# EAGLE library part EFR32MG21A0*IM32 (library EFM32)
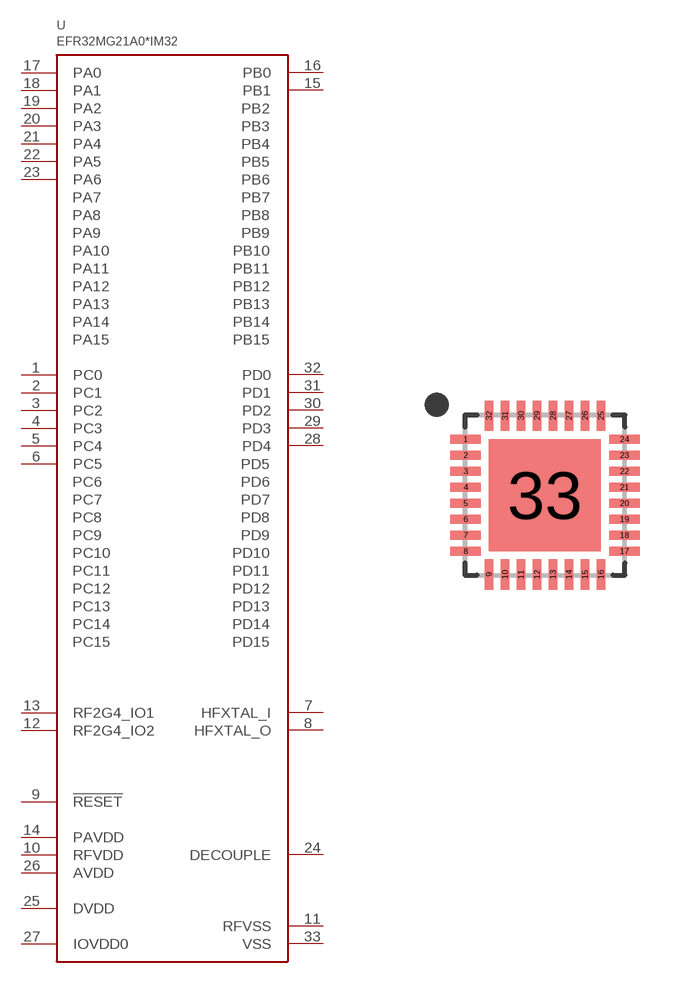
[diagram p12: symbol with the pads of QFN32_0.4P; footprint QFN32_0.4P]

Designator prefix U

## EFR32MG21A010F1024IM32, EFR32MG21A010F512IM32, EFR32MG21A010F768IM32, EFR32MG21A020F1024IM32, EFR32MG21A020F512IM32, EFR32MG21A020F768IM32  [QFN32_0.4P]
1  PC0
2  PC1
3  PC2
4  PC3
5  PC4
6  PC5
7  HFXTAL_I
8  HFXTAL_O
9  !RESET
10  RFVDD
11  RFVSS
12  RF2G4_IO2
13  RF2G4_IO1
14  PAVDD
15  PB1
16  PB0
17  PA0
18  PA1
19  PA2
20  PA3
21  PA4
22  PA5
23  PA6
24  DECOUPLE
25  DVDD
26  AVDD
27  IOVDD0
28  PD4
29  PD3
30  PD2
31  PD1
32  PD0
33  VSS

## Footprint QFN32_0.4P (pad centres in mm)
smd 0.76 x 0.22: 1 -1.985,1.4; 2 -1.985,1; 3 -1.985,0.6; 4 -1.985,0.2; 5 -1.985,-0.2; 6 -1.985,-0.6; 7 -1.985,-1; 8 -1.985,-1.4; 17 1.985,-1.4; 18 1.985,-1; 19 1.985,-0.6; 20 1.985,-0.2; 21 1.985,0.2; 22 1.985,0.6; 23 1.985,1; 24 1.985,1.4
smd 0.22 x 0.76: 9 -1.4,-1.985; 10 -1,-1.985; 11 -0.6,-1.985; 12 -0.2,-1.985; 13 0.2,-1.985; 14 0.6,-1.985; 15 1,-1.985; 16 1.4,-1.985; 25 1.4,1.985; 26 1,1.985; 27 0.6,1.985; 28 0.2,1.985; 29 -0.2,1.985; 30 -0.6,1.985; 31 -1,1.985; 32 -1.4,1.985
smd 2.8 x 2.8: 33 0,0